# Altium schematic symbol library MI_Personal.SchLib: 995 symbols (part 9 of 12)
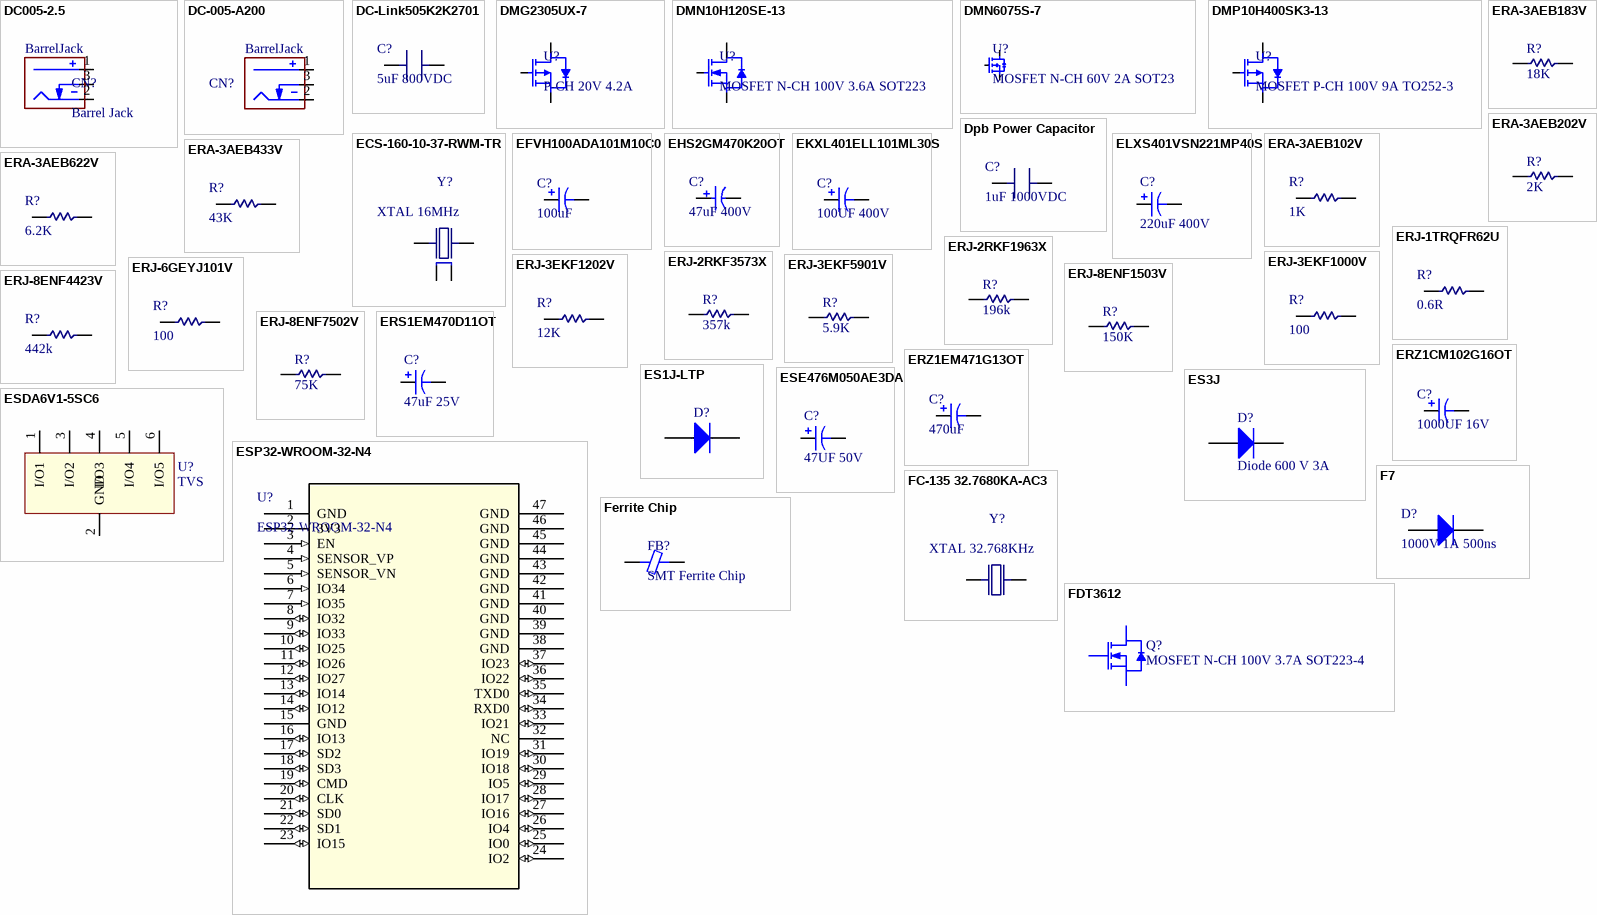
[diagram p35: symbols DC005-2.5 to Ferrite Chip]

## DMN6075S-7
designator U?, comment MOSFET N-CH 60V 2A SOT23
ComponentLink1Description: DIGIKEY; ComponentLink1URL: https://www.digikey.com/en/products/detail/diodes-incorporated/DMN6075S-7/5149292; ComponentLink2Description: LCSC; ComponentLink2URL: https://www.lcsc.com/product-detail/MOSFETs_Diodes-Incorporated-DMN6075S-7_C155242.html; Supplier 1: Digikey; Supplier Part Number 1: DMN6075S-7DICT-ND; Supplier 2: LCSC; Supplier Part Number 2: C155242; Supplier 3: Digikey; Supplier Part Number 3: 785-1830-1-ND; Supplier 4: LCSC; Supplier Part Number 4: C3280138
footprint SOT23-3 (SOT23-3, BAT54, DIODES INC)
pins: 1 GATE, 2 SOURCE, 3 DRAIN

## DMP10H400SK3-13
designator U?, comment MOSFET P-CH 100V 9A TO252-3
Supplier 1: Digikey; Supplier Part Number 1: DMP10H400SK3-13DICT-ND; Supplier 2: LCSC; Supplier Part Number 2: C177034; Supplier 3: Digikey; Supplier Part Number 3: FQD8P10TMCT-ND; Supplier 4: LCSC; Supplier Part Number 4: C241842
footprint DPACK-PMOS
pins: 1 G, 3 S, 4 D

## Dpb Power Capacitor
designator C?, comment 1uF 1000VDC
CAP FILM 1uF 10% 1000VDC DPS1050900*230; Supplier 1: Made In China; Supplier Part Number 1: https://crecapacitor.en.made-in-china.com/product/kfxYFtjHHIcW/China-Custom-Made-DC-Film-Capacitor-for-UPS-40UF-1100VDC.html
footprint CUSTOM 1UF 1000VDC Dpb Power Capacitor (VDC 1000V Voltage Code K ,P = 27.5)
pins: 1 A, 2 B

## ECS-160-10-37-RWM-TR
designator Y?, comment XTAL 16MHz
CRYSTAL 16.0000MHZ 10PF SMD; Supplier 1: DigiKey; Supplier Part Number 1: XC2119CT-ND; Supplier 2: LCSC; Supplier Part Number 2: C49158159
footprint OSC: 2016
pins: 1 XTAL1, 2 GND, 3 XTAL2, 4 GND

## EFVH100ADA101M10C0
designator C?, comment 100uF
CAP ALUM 100UF 20% 100V SMD; Supplier 1: DigiKey; Supplier Part Number 1: 565-EMVY101ARA101MLH0SCT-ND; Supplier 2: LCSC; Supplier Part Number 2: C22387799
footprint CAP ALSMD ELEC 10.3MM H12MM (Aluminum SMD Electrolytic Capacitor, 10.30mm Land Size, 10.00mm Diameter, 12.00mm Height, 10.90mm Maximum Leads Span)
pins: 1, 2

## EHS2GM470K20OT
designator C?, comment 47uF 400V
CAP ALUM 47uF 400V TH; Supplier 1: LCSC; Supplier Part Number 1: C5123346
footprint CAP TH ALUM ELEC D12.50mm S5.00mm H20.00mm (12.5mm Diameter 5mm Lead Spacing Aluminum Electrolytic Capacitors Radial, Can)
pins: 1, 2

## EKXL401ELL101ML30S
designator C?, comment 100UF 400V
CAP ALUM 100UF 20% 400V RADIAL; Supplier 1: Digikey; Supplier Part Number 1: 565-EKXL401ELL101ML30S-ND; Supplier 2: Mouser; Supplier Part Number 2: 661-EKXL401ELL101ML3; Supplier 3: Digikey; Supplier Part Number 3: 493-11293-ND; Supplier 4: Mouser; Supplier Part Number 4: 647-UPZ2G101MHD
footprint CAP TH ALUM ELEC D16.00mm S7.50mm H32.00mm (16mm Diameter 7.5mm Lead Spacing Aluminum Electrolytic Capacitors Radial, Can)
pins: 1, 2

## ELXS401VSN221MP40S
designator C?, comment 220uF 400V
CAP ALUM 220UF 20% 400V SNAP TH; Supplier 1: Digikey; Supplier Part Number 1: 565-ELXS401VSN221MP40S-ND; Supplier 2: Mouser; Supplier Part Number 2: 661-ELXS401VSN221MP4; Supplier 3: DigiKey; Supplier Part Number 3: 1189-3838-ND; Supplier 4: Digikey; Supplier Part Number 4: 493-8549-ND
footprint CAP TH ALUM ELEC D22.00mm S10.00mm H42.00mm (22mm Diameter 10mm Lead Spacing Aluminum Electrolytic Capacitors Radial, Can , Snap-In)
pins: 1, 2

## ERA-3AEB102V
designator R?, comment 1K
RES SMD 1K OHM 0.1% 1/10W 0603; ComponentLink1Description: DIGIKEY; ComponentLink1URL: https://www.digikey.com/en/products/detail/panasonic-electronic-components/ERA-3AEB102V/1465854; ComponentLink2Description: LCSC; ComponentLink2URL: https://www.lcsc.com/product-detail/Chip-Resistor-Surface-Mount_PANASONIC-ERA3AEB102V_C190613.html; Supplier 1: Digikey; Supplier Part Number 1: P1.0KDBCT-ND; Supplier 2: LCSC; Supplier Part Number 2: C190613; Supplier 3: Digikey; Supplier Part Number 3: YAG1237CT-ND; Supplier 4: LCSC; Supplier Part Number 4: C110776
footprint RES 0603_1608 (Chip Resistor, 2-Leads, Body 1.60x0.80mm, IPC Medium Density)
pins: 1 A, 2 B

## ERA-3AEB183V
designator R?, comment 18K
RES SMD 18K OHM 0.1% 1/10W 0603; Supplier 1: Digikey; Supplier Part Number 1: P18KDBCT-ND; Supplier 2: LCSC; Supplier Part Number 2: C473246; Supplier 3: Digikey; Supplier Part Number 3: YAG1552CT-ND; Supplier 4: LCSC; Supplier Part Number 4: C309650
footprint RES 0603_1608 (Chip Resistor, 2-Leads, Body 1.60x0.80mm, IPC Medium Density)
pins: 1 A, 2 B

## ERA-3AEB202V
designator R?, comment 2K
RES SMD 2K OHM 0.1% 1/10W 0603; Supplier 1: Digikey; Supplier Part Number 1: P2.0KDBCT-ND; Supplier 2: LCSC; Supplier Part Number 2: C335077; Supplier 3: Digikey; Supplier Part Number 3: YAG1626CT-ND; Supplier 4: LCSC; Supplier Part Number 4: C728588
footprint RES 0603_1608 (Chip Resistor, 2-Leads, Body 1.60x0.80mm, IPC Medium Density)
pins: 1 A, 2 B

## ERA-3AEB433V
designator R?, comment 43K
RES SMD 43K OHM 0.1% 1/10W 0603; ComponentLink1Description: DIGIKEY; ComponentLink1URL: https://www.digikey.com/en/products/detail/panasonic-electronic-components/ERA-3AEB433V/1465893?s=N4IgTCBcDaIKICUCCBaAzEuAhALGtAaiALoC%2BQA; ComponentLink2Description: LCSC; ComponentLink2URL: https://www.lcsc.com/product-detail/Chip-Resistor-Surface-Mount_PANASONIC-ERA3AEB433V_C445638.html; Supplier 1: Digikey; Supplier Part Number 1: P43KDBCT-ND; Supplier 2: LCSC; Supplier Part Number 2: C445638; Supplier 3: Digikey; Supplier Part Number 3: YAG4557CT-ND; Supplier 4: LCSC; Supplier Part Number 4: C326726
footprint RES 0603_1608 (Chip Resistor, 2-Leads, Body 1.60x0.80mm, IPC Medium Density)
pins: 1 A, 2 B

## ERA-3AEB622V
designator R?, comment 6.2K
RES SMD 6.2K OHM 0.1% 1/10W 0603; Supplier 1: Digikey; Supplier Part Number 1: P6.2KDBCT-ND; Supplier 2: LCSC; Supplier Part Number 2: C445633; Supplier 3: Digikey; Supplier Part Number 3: RG16P6.2KBCT-ND; Supplier 4: LCSC; Supplier Part Number 4: C319500
footprint RES 0603_1608 (Chip Resistor, 2-Leads, Body 1.60x0.80mm, IPC Medium Density)
pins: 1 A, 2 B

## ERJ-1TRQFR62U
designator R?, comment 0.6R
RES SMD 0.604 OHM 1% 1W 2512; Supplier 1: Digikey; Supplier Part Number 1: PT.62YCT-ND; Supplier 2: LCSC; Supplier Part Number 2: C2093704; Supplier 3: Digikey; Supplier Part Number 3: A109910CT-ND; Supplier 4: LCSC; Supplier Part Number 4: C7467376
footprint RES 2512_6332 (Chip Resistor, 2-Leads, Body 6.30x3.20mm, IPC Medium Density)
pins: 1 A, 2 B

## ERJ-2RKF1963X
designator R?, comment 196k
RES SMD 196K OHM 1% 1/10W 0402; Supplier 1: DigiKey; Supplier Part Number 1: P196KLCT-ND; Supplier 2: LCSC; Supplier Part Number 2: C26996
footprint RES 0402_1005 (Chip Resistor, 2-Leads, Body 1.0x0.5mm, IPC Medium Density)
pins: 1 A, 2 B

## ERJ-2RKF3573X
designator R?, comment 357k
RES SMD 357K OHM 1% 1/10W 0402; Supplier 1: DigiKey; Supplier Part Number 1: P357KLCT-ND; Supplier 2: LCSC; Supplier Part Number 2: C27005
footprint RES 0402_1005 (Chip Resistor, 2-Leads, Body 1.0x0.5mm, IPC Medium Density)
pins: 1 A, 2 B

## ERJ-3EKF1000V
designator R?, comment 100
RES SMD 100 OHM 1% 1/10W 0603; Supplier 1: Digikey; Supplier Part Number 1: P100HCT-ND; Supplier 2: LCSC; Supplier Part Number 2: C193336; Supplier 3: Digikey; Supplier Part Number 3: 311-100HRCT-ND; Supplier 4: LCSC; Supplier Part Number 4: C105588
footprint RES 0603_1608
pins: 1 A, 2 B

## ERJ-3EKF1202V
designator R?, comment 12K
RES SMD 12K OHM 1% 1/10W 0603; Supplier 1: Digikey; Supplier Part Number 1: P12.0KHCT-ND; Supplier 2: LCSC; Supplier Part Number 2: C400645; Supplier 3: Digikey; Supplier Part Number 3: 541-12.0KHCT-ND; Supplier 4: LCSC; Supplier Part Number 4: C844737
footprint RES 0603_1608 (Chip Resistor, 2-Leads, Body 1.60x0.80mm, IPC Medium Density)
pins: 1 A, 2 B

## ERJ-3EKF5901V
designator R?, comment 5.9K
RES SMD 5.9K OHM 1% 1/10W 0603; Supplier 1: Digikey; Supplier Part Number 1: P5.90KHTR-ND; Supplier 2: LCSC; Supplier Part Number 2: C403290; Supplier 3: Digikey; Supplier Part Number 3: 311-5.90KHRCT-ND; Supplier 4: LCSC; Supplier Part Number 4: C137697
footprint RES 0603_1608 (Chip Resistor, 2-Leads, Body 1.60x0.80mm, IPC Medium Density)
pins: 1 A, 2 B

## ERJ-6GEYJ101V
designator R?, comment 100
RES SMD 100 OHM 5% 1/8W 0805; Supplier 1: DigiKey; Supplier Part Number 1: P100ACT-ND; Supplier 2: LCSC; Supplier Part Number 2: C230647; Supplier 3: Digikey; Supplier Part Number 3: 311-100CRCT-ND; Supplier 4: LCSC; Supplier Part Number 4: C105577
footprint RES 0805_2012 (Chip Resistor, 2-Leads, Body 2.00x1.25mm, IPC Medium Density)
pins: 1 A, 2 B

## ERJ-8ENF1503V
designator R?, comment 150K
RES SMD 150K OHM 1% 1/4W 1206; Supplier 1: Digikey; Supplier Part Number 1: P150KFCT-ND; Supplier 2: LCSC; Supplier Part Number 2: C2092607; Supplier 3: Digikey; Supplier Part Number 3: YAG5984CT-ND; Supplier 4: LCSC; Supplier Part Number 4: C375529
footprint RES 1206_3216 (Chip Resistor, 2-Leads, Body 3.13x1.55mm, IPC Medium Density)
pins: 1 A, 2 B

## ERJ-8ENF4423V
designator R?, comment 442k
RES SMD 442K OHM 1% 1/4W 1206; Supplier 1: Digikey; Supplier Part Number 1: P442KFCT-ND; Supplier 2: LCSC; Supplier Part Number 2: C42372181; Supplier 3: Digikey; Supplier Part Number 3: 541-442KFCT-ND; Supplier 4: LCSC; Supplier Part Number 4: C323057
footprint RES 1206_3216 (Chip Resistor, 2-Leads, Body 3.13x1.55mm, IPC Medium Density)
pins: 1 A, 2 B

## ERJ-8ENF7502V
designator R?, comment 75K
RES SMD 75K OHM 1% 1/4W 1206; Supplier 1: DigiKey; Supplier Part Number 1: P75.0KFCT-ND; Supplier 2: LCSC; Supplier Part Number 2: C17986; Supplier 3: Digikey; Supplier Part Number 3: 311-75.0KFRCT-ND; Supplier 4: LCSC; Supplier Part Number 4: C137234
footprint RES 1206_3216 (Chip Resistor, 2-Leads, Body 3.13x1.55mm, IPC Medium Density)
pins: 1 A, 2 B

## ERS1EM470D11OT
designator C?, comment 47uF 25V
CAP ALUM 47UF 20% 25V RADIAL TH; Supplier 1: LCSC; Supplier Part Number 1: C106650
footprint CAP TH ALUM ELEC D5.00mm S2.00mm H12.00mm (5mm Diameter 2mm Lead Spacing Aluminum Electrolytic Capacitors Radial, Can)
pins: 1, 2

## ERZ1CM102G16OT
designator C?, comment 1000UF 16V
CAP ALUM 1000UF 20% 16V RADIAL; Supplier 2: LCSC; Supplier Part Number 2: C106707
footprint CAP TH ALUM ELEC D10.00mm S5.00mm H17.50mm (10mm Diameter 5mm Lead Spacing Aluminum Electrolytic Capacitors Radial, Can)
pins: 1, 2

## ERZ1EM471G13OT
designator C?, comment 470uF
CAP ALUM 470UF 20% 25V RADIAL TH; Supplier 1: Digikey; Supplier Part Number 1: 1189-1869-ND; Supplier 2: LCSC; Supplier Part Number 2: C106715
footprint CAP TH ALUM ELEC D10.00mm S5.00mm H13.50mm (10mm Diameter 5mm Lead Spacing Aluminum Electrolytic Capacitors Radial, Can)
pins: 1, 2

## ES1J-LTP
designator D?, comment DIODE GEN PURP 600V 1A DO214AC  (value not drawn)
Supplier 1: Digikey; Supplier Part Number 1: ES1J-LTPMSCT-ND; Supplier 2: LCSC; Supplier Part Number 2: C86560; Supplier 3: Digikey; Supplier Part Number 3: RS1J-FDICT-ND; Supplier 4: LCSC; Supplier Part Number 4: C155316
footprint DO214AC SMA (Molded Diode, 2-Leads, Body 4.30x2.60mm, IPC Medium Density)
pins: 1 A, 2 K

## ES3J
designator D?, comment Diode 600 V 3A
DIODE RECTIFER 600 V 3A Surface Mount DO-214AB (SMC); Supplier 1: Digikey; Supplier Part Number 1: 1801-ES3JDKR-ND; Supplier 2: LCSC; Supplier Part Number 2: C241736; Supplier 3: Digikey; Supplier Part Number 3: 4878-ES3JCT-ND; Supplier 4: Mouser; Supplier Part Number 4: 637-ES3J
footprint DO214AB SMC (Molded Diode, 2-Leads, Body 6.85x5.90mm, IPC Medium Density)
pins: 1 A, 2 K

## ESDA6V1-5SC6
designator U?, comment TVS
DIODE TVS DIODE 3VWM SOT23-6; Supplier 1: DigiKey; Supplier Part Number 1: 497-7747-1-ND; Supplier 2: LCSC; Supplier Part Number 2: C2827672
footprint SOT23-6 TI
pins: 1 I/O1 (power), 2 GND (power), 3 I/O2 (power), 4 I/O3 (power), 5 I/O4 (power), 6 I/O5 (power)

## ESE476M050AE3DA
designator C?, comment 47UF 50V
CAP ALUM 47UF 20% 50V RADIAL TH; Supplier 1: Digikey; Supplier Part Number 1: 399-ESE476M050AE3DACT-ND; Supplier 2: LCSC; Supplier Part Number 2: C106665; Supplier 3: Digikey; Supplier Part Number 3: P5181-ND; Supplier 4: LCSC; Supplier Part Number 4: C45101
footprint CAP TH ALUM ELEC D6.30mm S2.50mm H12.50mm (6.3mm Diameter 2.5mm Lead Spacing Aluminum Electrolytic Capacitors Radial, Can)
pins: 1, 2

## ESP32-WROOM-32-N4
designator U?
IC MODULE ESP32 WROOM
footprint MOD_ESP32-WROOM-32_EXP
pins: 1 GND (power), 2 3V3 (power), 3 EN (in), 4 SENSOR_VP (in), 5 SENSOR_VN (in), 6 IO34 (in), 7 IO35 (in), 8 IO32 (io), 9 IO33 (io), 10 IO25 (io), 11 IO26 (io), 12 IO27 (io), 13 IO14 (io), 14 IO12 (io), 15 GND (power), 16 IO13 (io), 17 SD2 (io), 18 SD3 (io), 19 CMD (io), 20 CLK (io), 21 SD0 (io), 22 SD1 (io), 23 IO15 (io), 24 IO2 (io), 25 IO0 (io), 26 IO4 (io), 27 IO16 (io), 28 IO17 (io), 29 IO5 (io), 30 IO18 (io), 31 IO19 (io), 32 NC, 33 IO21 (io), 34 RXD0 (io), 35 TXD0 (io), 36 IO22 (io), 37 IO23 (io), 38 GND (power), 39 GND (power), 40 GND (power), 41 GND (power), 42 GND (power), 43 GND (power), 44 GND (power), 45 GND (power), 46 GND (power), 47 GND (power)

## F7
designator D?, comment 1000V 1A 500ns
DIODE STANDARD 1000V 1A SOD123FL 500ns; Supplier 1: Digikey; Supplier Part Number 1: 5399-FR107CT-ND; Supplier 2: LCSC; Supplier Part Number 2: C908424
footprint SOD-123FL
pins: 1 A, 2 K

## FC-135 32.7680KA-AC3
designator Y?, comment XTAL 32.768KHz
CRYSTAL 32.7680KHZ 9PF SMD; Supplier 1: DigiKey; Supplier Part Number 1: SER4085CT-ND; Supplier 2: LCSC; Supplier Part Number 2: C99010
footprint OSC: 3215
pins: 1 XTAL1, 2 XTAL2

## FDT3612
designator Q?, comment MOSFET N-CH 100V 3.7A SOT223-4
N-Channel 100 V 3.7A (Ta) 3W (Ta) Surface Mount SOT-223-4; Supplier 1: Digikey; Supplier Part Number 1: FDT3612CT-ND; Supplier 2: LCSC; Supplier Part Number 2: C7472931; Supplier 3: Digikey; Supplier Part Number 3: FQT7N10LTFCT-ND; Supplier 4: LCSC; Supplier Part Number 4: C154506
footprint SOT-223 (SOT223, 4-Leads, Body 6.50x7.00mm (avg), Pitch 2.30mm, IPC Medium Density)
pins: D Drain, D1 Drain1, G Gate, S Source

## Ferrite Chip
designator FB?, comment SMT Ferrite Chip
SMD Ferrite Chip; Supplier 1: MAKERS; Supplier Part Number 1: https://makerselectronics.com/product/ferrite-beads-1206-100%cf%89-100mhz-1a-1-250m%cf%89; ComponentLink1Description: MAKERS; ComponentLink1URL: https://makerselectronics.com/product/ferrite-beads-1206-100%cf%89-100mhz-1a-1-250m%cf%89
footprint FER 1206_3216 (Chip Ferrite, 2-Leads, Body 3.20x1.60mm, IPC Medium Density)
pins: 1, 2

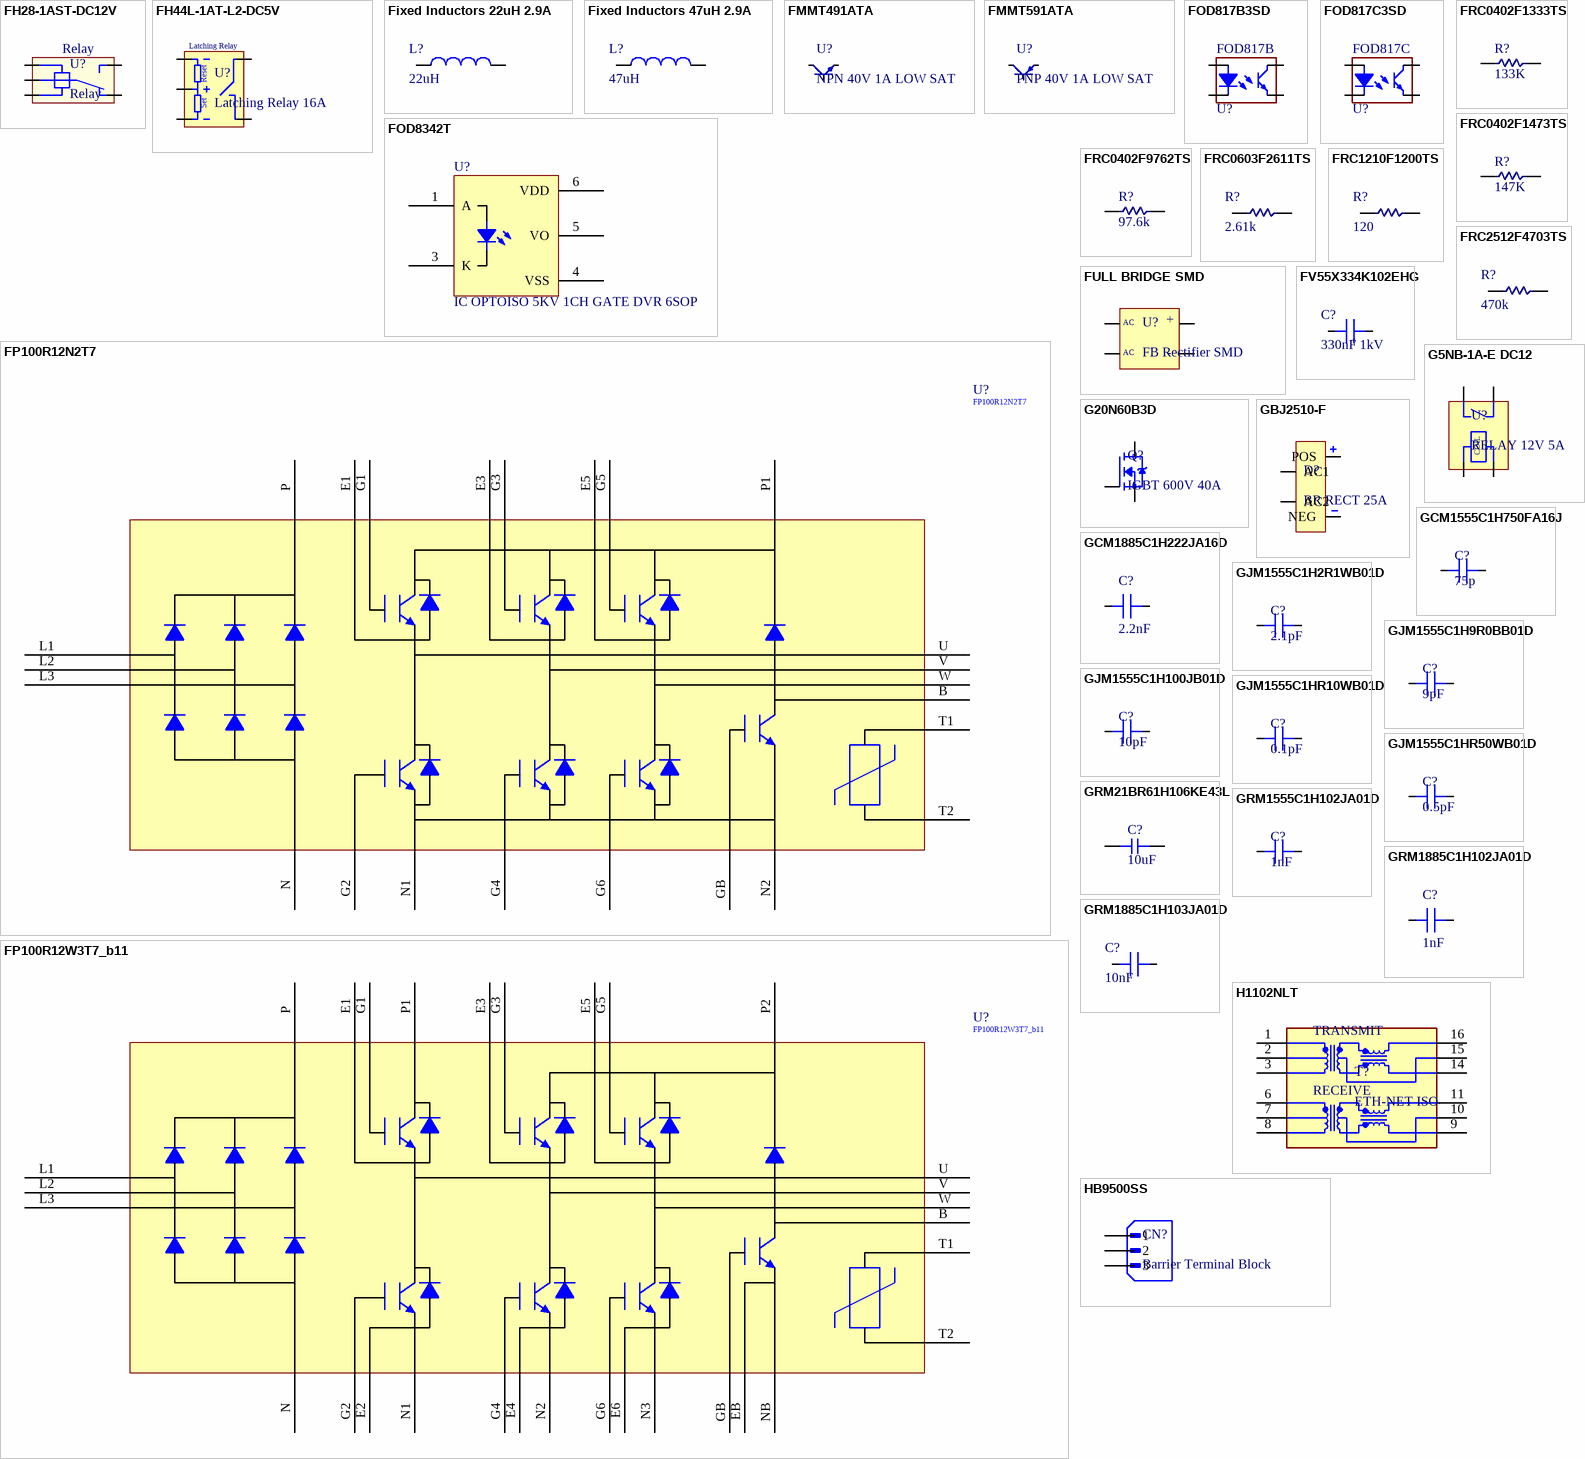
[diagram p13: symbols FH28-1AST-DC12V to HB9500SS]

## FH28-1AST-DC12V
designator U?, comment Relay
RELAY 20A 12VDC; Supplier 1: Makers; Supplier Part Number 1: https://makerselectronics.com/product/fanhar-relay-fh28-1ast-dc12v-20a-4p; ComponentLink1Description: Makers; ComponentLink1URL: https://makerselectronics.com/product/fanhar-relay-fh28-1ast-dc12v-20a-4p
footprint FH28-1AST-DC12V
pins: 1, 2, 3, 4, 5

## FH44L-1AT-L2-DC5V
designator U?, comment Latching Relay 16A
IC Latching Relay 16A 5 Pin; Supplier 1: Makers; Supplier Part Number 1: https://makerselectronics.com/product/fanhar-relay-fh44l-1at-l2-dc5v-16a-5p/; ComponentLink1Description: Makers; ComponentLink1URL: https://makerselectronics.com/product/fanhar-relay-fh44l-1at-l2-dc5v-16a-5p/
footprint Latching Relay FH44L-1AT-L2-DC5V 16A 5 Pin
pins: 1, 2, 3, 4, 5
text: Latching Relay; Reset; Set

## Fixed Inductors 22uH 2.9A
designator L?, comment 22uH
Fixed Inductor SMD 22uH 2.9A; Supplier 1: Makers; Supplier Part Number 1: https://makerselectronics.com/product/smd-pwr-fixed-inductors-22uh-2-9a-20-cdrh124; ComponentLink1Description: Makers; ComponentLink1URL: https://makerselectronics.com/product/smd-pwr-fixed-inductors-22uh-2-9a-20-cdrh124
footprint INDUCTOR NDP120120X45N (Precision Wire Wound Inductor, 2-Leads, Body 12.00x12.00mm, IPC Medium Density)
pins: 1, 2

## Fixed Inductors 47uH 2.9A
designator L?, comment 47uH
Fixed Inductor SMD 47uH 2.9A; Supplier 1: Makers; Supplier Part Number 1: https://makerselectronics.com/product/smd-pwr-fixed-inductors-22uh-2-9a-20-cdrh124; ComponentLink1Description: Makers; ComponentLink1URL: https://makerselectronics.com/product/smd-pwr-fixed-inductors-22uh-2-9a-20-cdrh124
footprint INDP120120X70N (Precision Wire Wound Inductor, 2-Leads, Body 12.00x12.00mm, IPC Medium Density)
pins: 1, 2

## FMMT491ATA
designator U?, comment NPN 40V 1A LOW SAT
TRANS NPN 40V 1A SOT-23-3; Supplier 1: DigiKey; Supplier Part Number 1: FMMT491ACT-ND; Supplier 2: LCSC; Supplier Part Number 2: C110504
footprint SOT23-3 (SOT23-3, BAT54, DIODES INC)
pins: 1 B, 2 E, 3 C

## FMMT591ATA
designator U?, comment PNP 40V 1A LOW SAT
TRANS PNP 40V 1A SOT-23-3; Supplier 1: Digikey; Supplier Part Number 1: FMMT591ACT-ND; Supplier 2: LCSC; Supplier Part Number 2: C460079
footprint SOT23-3 (SOT23-3, BAT54, DIODES INC)
pins: 1 B, 2 E, 3 C

## FOD817B3SD
designator U?, comment OPTOISOLATOR 5KV TRANSISTOR 4SMD  (value not drawn)
IC Optoisolator Transistor Output 5000Vrms 1 Channel 4-SMD; Supplier 1: Digikey; Supplier Part Number 1: FOD817B3SDCT-ND; Supplier 2: LCSC; Supplier Part Number 2: C327483; Supplier 3: Digikey; Supplier Part Number 3: LTV-817S-B-ND; Supplier 4: Mouser; Supplier Part Number 4: 859-LTV-817S-B
footprint SOP 4 817 OptoCoupler (SOP, 4-Leads, Body 4.60x6.50mm, Pitch 2.54mm, IPC Medium Density)
pins: 1, 2, 3, 4
text: FOD817B

## FOD817C3SD
designator U?, comment OPTOISOLATOR 5KV TRANSISTOR 4SMD  (value not drawn)
IC Optoisolator Transistor SMD Output 5000Vrms 1 Channel; Supplier 1: Digikey; Supplier Part Number 1: FOD817C3SDCT-ND; Supplier 2: LCSC; Supplier Part Number 2: C241831; Supplier 3: Digikey; Supplier Part Number 3: 160-LTV-817S-TA1-CCT-ND; Supplier 4: LCSC; Supplier Part Number 4: C3025164
footprint SOP 4 817 OptoCoupler (SOP, 4-Leads, Body 4.60x6.50mm, Pitch 2.54mm, IPC Medium Density)
pins: 1, 2, 3, 4
text: FOD817C

## FOD8342T
designator U?, comment IC OPTOISO 5KV 1CH GATE DVR 6SOP
IC 3A Gate Driver Optical Coupling 5000Vrms 1 Channel 6-SOP; Supplier 1: Digikey; Supplier Part Number 1: FOD8342TOS-ND; Supplier 2: LCSC; Supplier Part Number 2: C132695
footprint SOIC-6 FOD8342T
pins: 1 A, 3 K, 4 VSS, 5 VO, 6 VDD

## FP100R12N2T7
designator U?
IGBT Module Trench Field Stop Three Phase Inverter 1200 V 100 A / EconoPIM™ 2; Supplier 1: DigiKey; Supplier Part Number 1: 448-FP100R12N2T7BPSA2-ND; Supplier 2: Mouser; Supplier Part Number 2: 726-FP100R12N2T7BPS2; Supplier 3: LCSC; Supplier Part Number 3: C44051119; ComponentLink1Description: infineon; ComponentLink1URL: https://www.infineon.com/part/FP100R12N2T7
footprint FP100R12N2T7 (Module, IGBT, THT, 23 pin, 107.50 mm L X 45.00 mm W X 17.50mm mm H body)
pins: B, E1, E3, E5, G1, G2, G3, G4, G5, G6, GB, L1, L2, L3, N, N1, N2, P, P1, T1, T2, U, V, W

## FP100R12W3T7_b11
designator U?
IGBT Module Trench Field Stop Three Phase Inverter 1200 V 100 A Chassis Mount AG-EASY3B; Value: FP100R12W3T7_b11; Supplier Part Number: FP100R12W3T7_b11; Supplier: IFX
footprint EasyPIM™ 3B
pins: B, E1, E2, E3, E4, E5, E6, EB, G1, G2, G3, G4, G5, G6, GB, L1, L2, L3, N, N1, N2, N3, NB, P, P1, P2, T1, T2, U, V, W

## FRC0402F1333TS
designator R?, comment 133K
RES SMD 133K OHM 1% 1/16W 0402; Supplier 1: DigiKey; Supplier Part Number 1: 13-RC0402FR-13133KLCT-ND; Supplier 2: LCSC; Supplier Part Number 2: C2998045
footprint RES 0402_1005 (Chip Resistor, 2-Leads, Body 1.0x0.5mm, IPC Medium Density)
pins: 1 A, 2 B

## FRC0402F1473TS
designator R?, comment 147K
RES SMD 147K OHM 1% 1/16W 0402; Supplier 1: DigiKey; Supplier Part Number 1: 13-AC0402FR-07147KLCT-ND; Supplier 2: LCSC; Supplier Part Number 2: C2933073
footprint RES 0402_1005 (Chip Resistor, 2-Leads, Body 1.0x0.5mm, IPC Medium Density)
pins: 1 A, 2 B

## FRC0402F9762TS
designator R?, comment 97.6k
RES SMD 97.6K OHM 1% 1/16W 0402; Supplier 1: DigiKey; Supplier Part Number 1: 311-97.6KLRCT-ND; Supplier 2: LCSC; Supplier Part Number 2: C5126124
footprint RES 0402_1005 (Chip Resistor, 2-Leads, Body 1.0x0.5mm, IPC Medium Density)
pins: 1 A, 2 B

## FRC0603F2611TS
designator R?, comment 2.61k
RES SMD 2.61K OHM 1% 1/10W 0603; Supplier 1: Digikey; Supplier Part Number 1: 541-2.61KHCT-ND; Supplier 2: LCSC; Supplier Part Number 2: C2933181
footprint RES 0603_1608 (Chip Resistor, 2-Leads, Body 1.60x0.80mm, IPC Medium Density)
pins: 1 A, 2 B

## FRC1210F1200TS
designator R?, comment 120
RES SMD 120 OHM 1% 1/2W 1210; Supplier 1: DigiKey; Supplier Part Number 1: 13-RC1210FR-07120RLCT-ND; Supplier 2: LCSC; Supplier Part Number 2: C2974062
footprint RES 1210_3225 (Chip Resistor, 2-Leads, Body 3.1x2.6mm, IPC Medium Density)
pins: 1 A, 2 B

## FRC2512F4703TS
designator R?, comment 470k
RES SMD 470k ±1% 1W 2512; Supplier 1: Digikey; Supplier Part Number 1: RMCF0402FT470KCT-ND; Supplier 2: LCSC; Supplier Part Number 2: C2934077
footprint RES 2512_6332 (Chip Resistor, 2-Leads, Body 6.30x3.20mm, IPC Medium Density)
pins: 1 A, 2 B

## FULL BRIDGE SMD
designator U?, comment FB Rectifier SMD
IC SMD Full Bridge rectifier 1kV 5A; Supplier 1: Makers; Supplier Part Number 1: https://makerselectronics.com/product/fmsb30m-3a-1-3v3a-3a-1kv-umsb-smd-bridge-rectifier; Supplier 2: LCSC; Supplier Part Number 2: C2985004
footprint Full Bridge SMD
pins: 1 +, 2 -, 3 10, 4
text: AC

## FV55X334K102EHG
designator C?, comment 330nF 1kV
CAP CER 330nF 1kV X7R 2220; Supplier 1: Digikey; Supplier Part Number 1: 490-3505-1-ND; Supplier 2: LCSC; Supplier Part Number 2: C5156759
footprint CAP 2220_5650 3.0MM (Chip Capacitor, 2-Leads, Body 5.70x5.00mm, IPC Medium Density)
pins: 1, 2

## G5NB-1A-E DC12
designator U?, comment RELAY 12V 5A
RELAY GEN PURPOSE SPST 5A 12V; Supplier 1: LCSC; Supplier Part Number 1: C225714
footprint RELAY_G5NB-1A-E
pins: 1, 2, 3, 4
text: COIL

## G20N60B3D
designator Q?, comment IGBT 600V 40A
IGBT 600V 40A To-247; Supplier 1: RAM; Supplier Part Number 1: https://www.ram-e-shop.com/shop/g20n60b3d-g20n60b3d-5986; ComponentLink1Description: RAM; ComponentLink1URL: https://www.ram-e-shop.com/shop/g20n60b3d-g20n60b3d-5986
footprint TO-247
pins: 1 G, 2 D, 3 S

## GBJ2510-F
designator D?, comment BR RECT 25A
DIODE Bridge Rectifier Single Phase Standard 1 kV Through Hole GBJ; Supplier 1: LCSC; Supplier Part Number 1: C42406061; Supplier 2: DigiKey; Supplier Part Number 2: GBJ2510-FDI-ND
footprint DIODE BRIDGE GBJ
pins: 1 POS, 2 AC1, 3 AC2, 4 NEG

## GCM1555C1H750FA16J
designator C?, comment 75p
CAP CER 75PF 50V C0G/NP0 0402; Supplier 1: WORLDWAY; Supplier Part Number 1: GCM1555C1H750FA16J; Supplier 2: LCSC; Supplier Part Number 2: C22435960
footprint CAP 0402_1005 RF (Chip Capacitor, 2-Leads, Body 1.02x0.51mm, IPC High Density)
pins: 1, 2

## GCM1885C1H222JA16D
designator C?, comment 2.2nF
CAP CER 2200PF 50V C0G/NP0 0603; Supplier 1: DigiKey; Supplier Part Number 1: 490-4968-1-ND; Supplier 2: LCSC; Supplier Part Number 2: C77033; Supplier 3: Digikey; Supplier Part Number 3: 1292-1507-1-ND; Supplier 4: LCSC; Supplier Part Number 4: C33353
footprint CAP 0603_1608 (Chip Capacitor, 2-Leads, Body 1.60x0.80mm, IPC Medium Density)
pins: 1, 2

## GJM1555C1H2R1WB01D
designator C?, comment 2.1pF
CAP CER 2.1PF 50V C0G/NP0 0402; Supplier 1: DigiKey; Supplier Part Number 1: 490-GJM1555C1H2R1WB01DCT-ND; Supplier 2: LCSC; Supplier Part Number 2: C2220990
footprint CAP 0402_1005 RF (Chip Capacitor, 2-Leads, Body 1.02x0.51mm, IPC High Density)
pins: 1, 2

## GJM1555C1H9R0BB01D
designator C?, comment 9pF
RF CAP CER 9PF 50V C0G/NP0 0402; Supplier 1: DigiKey; Supplier Part Number 1: 490-14792-1-ND; Supplier 2: LCSC; Supplier Part Number 2: C88899
footprint CAP 0402_1005 RF (Chip Capacitor, 2-Leads, Body 1.02x0.51mm, IPC High Density)
pins: 1, 2

## GJM1555C1H100JB01D
designator C?, comment 10pF
RF CAP CER 10PF 50V C0G/NP0 0402; Supplier 1: DigiKey; Supplier Part Number 1: 490-3113-1-ND; Supplier 2: LCSC; Supplier Part Number 2: C85874
footprint CAP 0402_1005 RF (Chip Capacitor, 2-Leads, Body 1.02x0.51mm, IPC High Density)
pins: 1, 2

## GJM1555C1HR10WB01D
designator C?, comment 0.1pF
RF CAP CER 0.1PF 50V C0G/NP0 0402; Supplier 1: DigiKey; Supplier Part Number 1: 490-11246-1-ND; Supplier 2: LCSC; Supplier Part Number 2: C161338
footprint CAP 0402_1005 RF (Chip Capacitor, 2-Leads, Body 1.02x0.51mm, IPC High Density)
pins: 1, 2

## GJM1555C1HR50WB01D
designator C?, comment 0.5pF
RF CAP CER 0.5PF 50V C0G/NP0 0402; Supplier 1: DigiKey; Supplier Part Number 1: 490-11250-1-ND; Supplier 2: LCSC; Supplier Part Number 2: C76912
footprint CAP 0402_1005 RF (Chip Capacitor, 2-Leads, Body 1.02x0.51mm, IPC High Density)
pins: 1, 2

## GRM21BR61H106KE43L
designator C?  Capacitance: 10uF  (hidden comment: *)
Capacitor, Ceramic (MLCC), 10uF, ±10%, 50V, X5R, ±10%, SMD 0805; Manufacturer: Murata Electronics; Manufacturer Part Number: GRM21BR61H106KE43L; Package Size: 0805; JLCPCB Basic Part: Yes; JLCPCB Part Number: C440198; Supplier 1: LCSC; Category: Capacitors - MLCC; Supplier Part Number 1: C440198; Tolerance: ±10%; Voltage Rating: 50V; Temperature Coefficient: X5R; RoHS: Yes; ComponentLink1Description: Datasheet; ComponentLink1URL: https://wmsc.lcsc.com/wmsc/upload/file/pdf/v2/lcsc/2310251059_Murata-Electronics-GRM21BR61H106KE43L_C440198.pdf; ComponentLink2Description: JLCPCB Part URL; ComponentLink2URL: https://jlcpcb.com/partdetail/C440198; ComponentLink3Description: LCSC Part URL; ComponentLink3URL: https://lcsc.com/product-detail/Multilayer-Ceramic-Capacitors-MLCC---SMD-SMT_Murata-Electronics-Murata-Electronics-GRM21BR61H106KE43L_C440198.html
footprint CAP-0805 (0805 (2012M) Capacitor)
pins: 1, 2

## GRM1555C1H102JA01D
designator C?, comment 1nF
RF CAP CER 1nF 50V C0G/NP0 0402; Supplier 1: DigiKey; Supplier Part Number 1: 490-3244-6-ND; Supplier 2: LCSC; Supplier Part Number 2: C76947
footprint CAP 0402_1005 RF (Chip Capacitor, 2-Leads, Body 1.02x0.51mm, IPC High Density)
pins: 1, 2

## GRM1885C1H102JA01D
designator C?, comment 1nF
CAP CER 1000PF 50V C0G/NP0 0603; Supplier 1: DigiKey; Supplier Part Number 1: 490-1451-1-ND; Supplier 2: LCSC; Supplier Part Number 2: C77026; Supplier 3: Digikey; Supplier Part Number 3: 1276-1091-1-ND; Supplier 4: LCSC; Supplier Part Number 4: C163508
footprint CAP 0603_1608 (Chip Capacitor, 2-Leads, Body 1.60x0.80mm, IPC Medium Density)
pins: 1, 2

## GRM1885C1H103JA01D
designator C?, comment 10nF
CAP CER 10000PF 50V C0G/NP0 0603; Supplier 1: Digikey; Supplier Part Number 1: 490-9666-1-ND; Supplier 2: LCSC; Supplier Part Number 2: C85973; Supplier 3: Digikey; Supplier Part Number 3: 445-7404-1-ND; Supplier 4: LCSC; Supplier Part Number 4: C82282
footprint CAP 0603_1608
pins: 1, 2

## H1102NLT
designator T?, comment ETH-NET ISO
TRANS Isolation and Data Interface (Encapsulated) Pulse Transformer 1:1 Transmitter, 1:1 Receiver Surface Mount; Supplier 1: DigiKey; Supplier Part Number 1: 553-1532-1-ND; Supplier 2: LCSC; Supplier Part Number 2: C18584
footprint TRANS ETHERNET ISO SMD
pins: 1, 2, 3, 6, 7, 8, 9, 10, 11, 14, 15, 16
text: TRANSMIT; RECEIVE

## HB9500SS
designator CN?, comment Barrier Terminal Block
CONN Barrier Terminal Block with Cover 300V/30A 3 Pin 9.5mm Pitch; Supplier 1: MAKERS; Supplier Part Number 1: https://makerselectronics.com/product/hb9500ss-barrier-terminal-block-with-cover-300v-30a-3-pin-9-5mm-pitch/; ComponentLink1Description: MAKERS; ComponentLink1URL: https://makerselectronics.com/product/hb9500ss-barrier-terminal-block-with-cover-300v-30a-3-pin-9-5mm-pitch/
footprint Barrier Screw Terminal 9.5mm Pitch
pins: 1, 2, 3

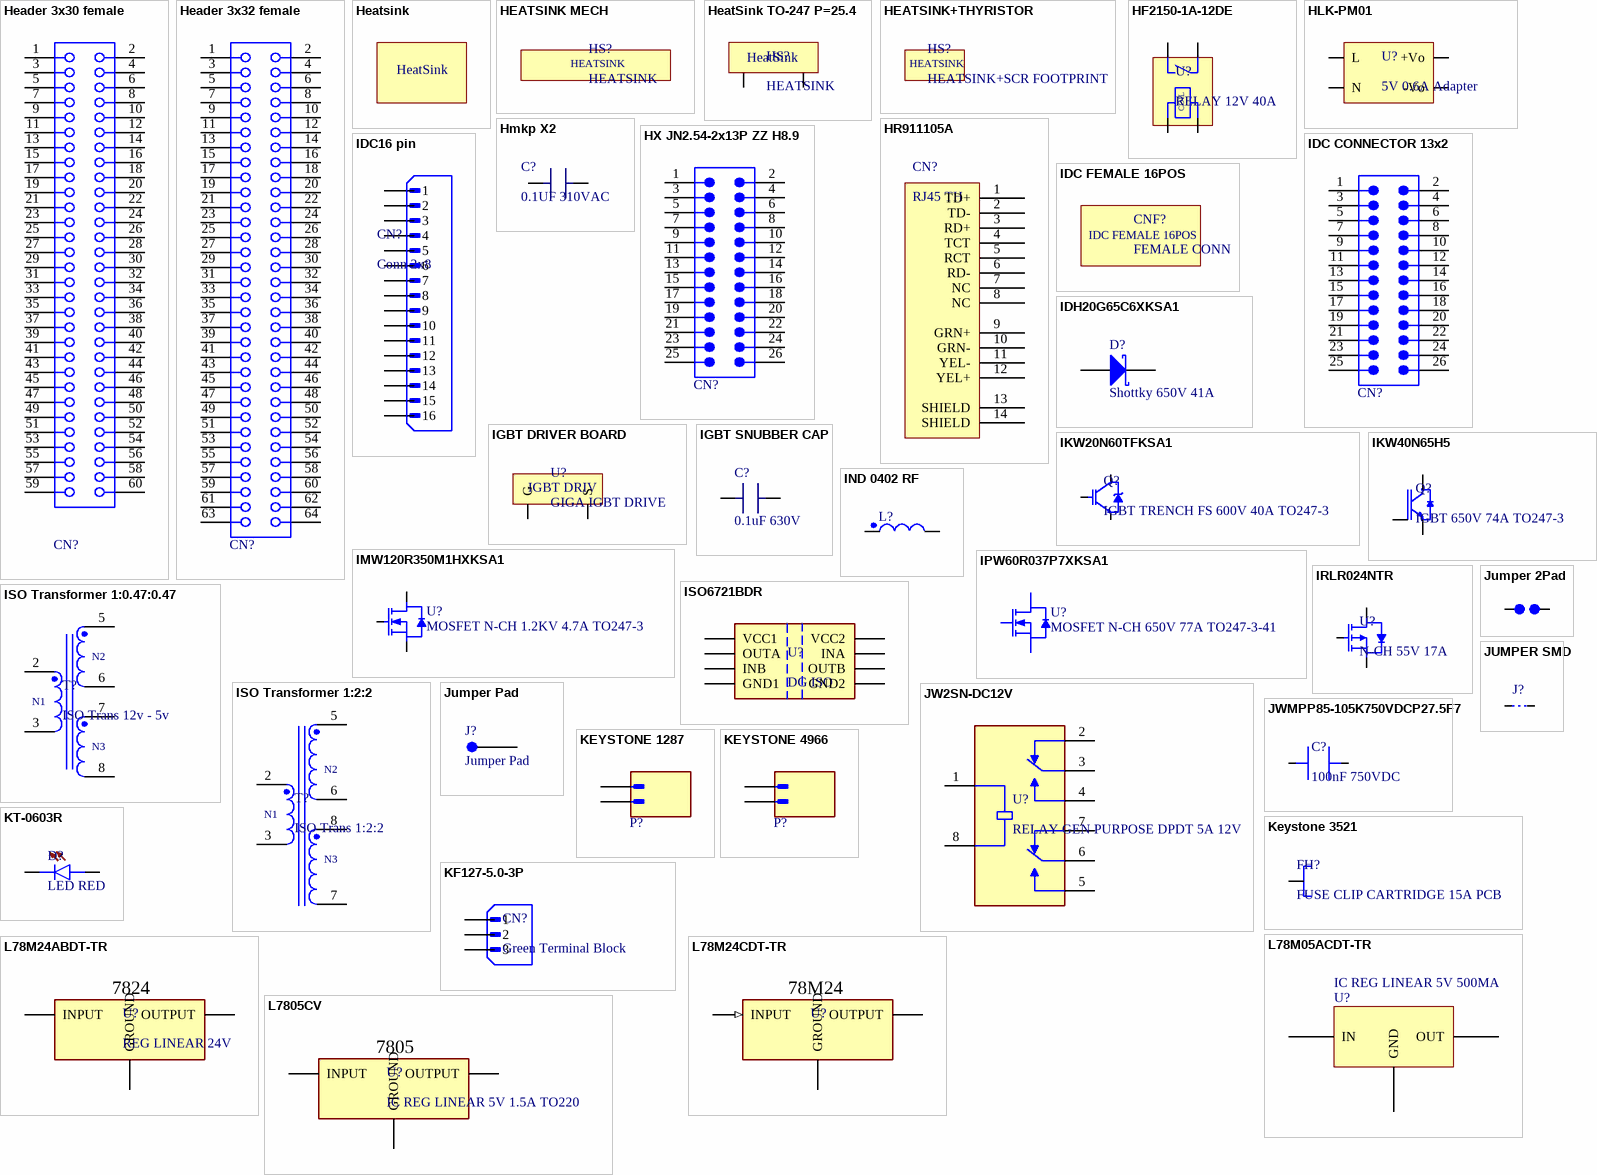
[diagram p14: symbols Header 3x30 female to L7805CV]

## Header 3x30 female
designator CN?, comment CONN HEADER VERT 60POS 2ROW 2.54MM Female  (value not drawn)
CONNECTOR Socket Header, THT, Vertical, pitch 2.54mm, 2 Row, 60P; ComponentLink1Description: Made In China; ComponentLink1URL: https://forman.en.made-in-china.com/product/iGBYVIkJbXWo/China-Fpic-Pin-Header-Connectors-Customized-PCB-Board-Electronics-0-8mm-to-2-54mm-Female-Header.html?pv_id=1ig96hv8j29e&faw_id=1ig96ikd9525; Supplier 1: Made In China; Supplier Part Number 1: https://forman.en.made-in-china.com/product/iGBYVIkJbXWo/China-Fpic-Pin-Header-Connectors-Customized-PCB-Board-Electronics-0-8mm-to-2-54mm-Female-Header.html?pv_id=1ig96hv8j29e&faw_id=1ig96ikd9525
footprint HEADER 2x30 Female (Socket Header, Pitch 2.54 mm, THT, Vertical, dual row, 60p)
pins: 1, 2, 3, 4, 5, 6, 7, 8, 9, 10, 11, 12, 13, 14, 15, 16, 17, 18, 19, 20, 21, 22, 23, 24, 25, 26, 27, 28, 29, 30, 31, 32, 33, 34, 35, 36, 37, 38, 39, 40, 41, 42, 43, 44, 45, 46, 47, 48, 49, 50, 51, 52, 53, 54, 55, 56, 57, 58, 59, 60

## Header 3x32 female
designator CN?, comment CONN HEADER VERT 64POS 2ROW 2.54MM Female  (value not drawn)
CONNECTOR Socket Header, THT, Vertical, pitch 2.54mm, 2 Row, 64P; ComponentLink1Description: Made In China; ComponentLink1URL: https://forman.en.made-in-china.com/product/iGBYVIkJbXWo/China-Fpic-Pin-Header-Connectors-Customized-PCB-Board-Electronics-0-8mm-to-2-54mm-Female-Header.html?pv_id=1ig96hv8j29e&faw_id=1ig96ikd9525; Supplier 1: Made In China; Supplier Part Number 1: https://forman.en.made-in-china.com/product/iGBYVIkJbXWo/China-Fpic-Pin-Header-Connectors-Customized-PCB-Board-Electronics-0-8mm-to-2-54mm-Female-Header.html?pv_id=1ig96hv8j29e&faw_id=1ig96ikd9525
footprint HEADER 2x32 Female (Socket Header, Pitch 2.54 mm, THT, Vertical, dual row, 64p)
pins: 1, 2, 3, 4, 5, 6, 7, 8, 9, 10, 11, 12, 13, 14, 15, 16, 17, 18, 19, 20, 21, 22, 23, 24, 25, 26, 27, 28, 29, 30, 31, 32, 33, 34, 35, 36, 37, 38, 39, 40, 41, 42, 43, 44, 45, 46, 47, 48, 49, 50, 51, 52, 53, 54, 55, 56, 57, 58, 59, 60, 61, 62, 63, 64

## Heatsink
designator HS?  (value not drawn)
Custom Made; Supplier 1: Made In China
footprint HeatSink
text: HeatSink

## HEATSINK MECH
designator HS?, comment HEATSINK  (mechanical)
MECH THYRISTOR HEATSINK CUSTOM MADE

## HeatSink TO-247 P=25.4
designator HS?, comment HEATSINK
HEATSINK GIGA; Supplier 1: MAKERS; Supplier Part Number 1: https://makerselectronics.com/product/aluminium-heatsink-for-to-247-38x34x12mm-black; ComponentLink1Description: MAKERS; ComponentLink1URL: https://makerselectronics.com/product/aluminium-heatsink-for-to-247-38x34x12mm-black
footprint HeatSink TO-247 (Rwesh Ta7n)
pins: 1, 2
text: HeatSink

## HEATSINK+THYRISTOR
designator HS?, comment HEATSINK+SCR FOOTPRINT  (no BOM)
GRAPHICAL HEATSINK+THYRISTOR FOOTPRINT
footprint HeatSinkThyristorMounted
text: HEATSINK

## HF2150-1A-12DE
designator U?, comment RELAY 12V 40A
RELAY 12V 40A 1 Form A: 1A (SPST-NO) Through Hole,31.8x27mm; Supplier 1: DIGIKEY; Supplier Part Number 1: PB2352-ND; Supplier 2: LCSC; Supplier Part Number 2: C32863
footprint Relay HF2150-1A-12DE (Through Hole,27x31.8mm Power Relays ROHS)
pins: 1, 2, 3, 4
text: COIL

## HLK-PM01
designator U?, comment 5V 0.6A Adapter
IC HLK-PM01 AC/DC Power Module 5V 0.6A 3W; Supplier 1: Makers; Supplier Part Number 1: https://makerselectronics.com/product/hlk-pm01-ac-dc-power-module/; ComponentLink1Description: Makers; ComponentLink1URL: https://makerselectronics.com/product/hlk-pm01-ac-dc-power-module/
footprint HLK-PM01 AC/DC Power Module 5V 0.6A 3W
pins: 1 N, 2 L, 3 -Vo, 4 +Vo

## Hmkp X2
designator C?, comment 0.1UF 310VAC
CAP FILM 0.1UF 310VAC; ComponentLink1Description: MADE IN CHINA; ComponentLink1URL: https://hongfarad168.en.made-in-china.com/product/AGhpCdaKnWVo/China-1-0UF-250-275-305-310V-Hmkp-X2-Metallized-Polypropylene-Film-Intereference-Suppresion-Capacitor.html?pv_id=1ig1l5eqi779&faw_id=1ig1l5nt13d5; Supplier 1: Made In China; Supplier Part Number 1: https://hongfarad168.en.made-in-china.com/product/AGhpCdaKnWVo/China-1-0UF-250-275-305-310V-Hmkp-X2-Metallized-Polypropylene-Film-Intereference-Suppresion-Capacitor.html?pv_id=1ig1l5eqi779&faw_id=1ig1l5nt13d5
footprint Hmkp X2
pins: 1 A, 2 B

## HR911105A
designator CN?, comment RJ45 TH
CONN MOD JACK RJ45 TH W MAGs
footprint CONN RJ45 HR911105A
pins: 1 TD+, 2 TD-, 3 RD+, 4 TCT, 5 RCT, 6 RD-, 7 NC, 8 NC, 9 GRN+, 10 GRN-, 11 YEL-, 12 YEL+, 13 SHIELD, 14 SHIELD

## HX JN2.54-2x13P ZZ H8.9
designator CN?, comment CONN HEADER VERT 26POS 2ROW 2.54MM Male  (value not drawn)
CONNECTOR Box Header, THT Straight, pitch 2.54mm, 2 row, 26 pin; Supplier 1: LCSC; Supplier Part Number 1: C42455950
footprint IDC CONNECTOR 13x2 (26 pins, straight, gold plating)
pins: 1, 2, 3, 4, 5, 6, 7, 8, 9, 10, 11, 12, 13, 14, 15, 16, 17, 18, 19, 20, 21, 22, 23, 24, 25, 26

## IDC16 pin
designator CN?, comment Conn 2x8
CONN HEADER VERT 16POS 2.5MM IDC; Supplier 1: RAM; Supplier Part Number 1: https://www.ram-e-shop.com/shop/fc16-pcb-idc16-male-polarized-fc16-pcb-6002; ComponentLink1Description: RAM; ComponentLink1URL: https://www.ram-e-shop.com/shop/fc16-pcb-idc16-male-polarized-fc16-pcb-6002
footprint IDC 8x2 LATCHING (16 pins, straight, short lever, gold plating)
footprint IDC 2X8 (2.00mm Male Box Header, 16p)
pins: 1, 2, 3, 4, 5, 6, 7, 8, 9, 10, 11, 12, 13, 14, 15, 16

## IDC CONNECTOR 13x2
designator CN?, comment CONN HEADER VERT 26POS 2ROW 2.54MM Male  (value not drawn)
CONNECTOR Box Header, THT Straight, pitch 2.54mm, 2 row, 26 pin; ComponentLink1Description: MADE IN CHINA; ComponentLink1URL: https://forman.en.made-in-china.com/product/fTGRjSYbgKhL/China-Fpic-2-54mm-Double-Row-PCB-Pin-Header-Electronics-Parts-2-54mm-Pitch-DIP-Box-Header.html?pv_id=1ig970m81f6b&faw_id=1ig970p1odeb; Supplier 1: Made In China; Supplier Part Number 1: https://forman.en.made-in-china.com/product/fTGRjSYbgKhL/China-Fpic-2-54mm-Double-Row-PCB-Pin-Header-Electronics-Parts-2-54mm-Pitch-DIP-Box-Header.html?pv_id=1ig970m81f6b&faw_id=1ig970p1odeb
footprint IDC Conn 26pin lever (26 pins, straight, short lever, gold plating)
pins: 1, 2, 3, 4, 5, 6, 7, 8, 9, 10, 11, 12, 13, 14, 15, 16, 17, 18, 19, 20, 21, 22, 23, 24, 25, 26

## IDC FEMALE 16POS
designator CNF?, comment FEMALE CONN  (mechanical)
MECH IDC FEMALE 16POS; Supplier 1: RAM; Supplier Part Number 1: https://www.ram-e-shop.com/shop/fc16-cable-idc16-female-fc16-cable-6001; ComponentLink1Description: RAM; ComponentLink1URL: https://www.ram-e-shop.com/shop/fc16-cable-idc16-female-fc16-cable-6001

## IDH20G65C6XKSA1
designator D?, comment Shottky 650V 41A
DIODE Schottky SIL CARB 650V 41A TO220-2; Supplier 1: Digikey; Supplier Part Number 1: 448-IDH20G65C6XKSA1-ND; Supplier 2: LCSC; Supplier Part Number 2: C7435072; Supplier 3: Digikey; Supplier Part Number 3: 1655-S6D20065A-ND; Supplier 4: LCSC; Supplier Part Number 4: C784609
footprint TO-220-2_INF
pins: 1 A, 2 K

## IGBT DRIVER BOARD
designator U?, comment GIGA IGBT DRIVE
IC BOARD IGBT DRIV
footprint IGBT GATE DRIV
pins: 1 G, 2 S
text: IGBT DRIV

## IGBT SNUBBER CAP
designator C?, comment 0.1uF 630V
CAP FILM 0.1uF 630V RADIAL
footprint IGBT SNUBBER CAP
pins: 1 A, 2 B

## IKW20N60TFKSA1
designator Q?, comment IGBT TRENCH FS 600V 40A TO247-3
Trans IGBT TRENCH FS 600V 40A TO247-3; Supplier 1: Digikey; Supplier Part Number 1: IKW20N60TFKSA1-ND; Supplier 2: LCSC; Supplier Part Number 2: C10456
footprint TO-247 (IXYS TO-264 IXFK Vetical)
pins: 1 G, 2 C, 3 E

## IKW40N65H5
designator Q?, comment IGBT 650V 74A TO247-3
IGBT 650 V 74 A 255 W Through Hole PG-TO247-3; Supplier 1: DigiKey; Supplier Part Number 1: IKW40N65H5FKSA1-ND; Supplier 2: LCSC; Supplier Part Number 2: C454249
footprint TO-247 (IXYS TO-264 IXFK Vetical)
pins: 1 G, 2 C, 3 E

## IMW120R350M1HXKSA1
designator U?, comment MOSFET N-CH 1.2KV 4.7A TO247-3
Supplier 1: Digikey; Supplier Part Number 1: IMW120R350M1HXKSA1-ND; Supplier 2: LCSC; Supplier Part Number 2: C2997926; Supplier 3: Digikey; Supplier Part Number 3: 497-18094-ND; Supplier 4: LCSC; Supplier Part Number 4: C472643
footprint TO-247 + Heatsink (IXYS TO-264 IXFK Vetical)
pins: 1 G, 2 D, 3 S

## IND 0402 RF
designator L?
DEFAULT
footprint IND 0402 RF (Chip Inductor, 2-Leads, Body 1.00x0.50mm, IPC High Density)
pins: 1 B, 2 A

## IPW60R037P7XKSA1
designator U?, comment MOSFET N-CH 650V 77A TO247-3-41
Supplier 1: Digikey; Supplier Part Number 1: 448-IPW60R037P7XKSA1-ND; Supplier 2: LCSC; Supplier Part Number 2: C454263; Supplier 3: DigiKey; Supplier Part Number 3: 497-STWA65N65DM2AG-ND; Supplier 4: LCSC; Supplier Part Number 4: C501093
footprint TO-247 (IXYS TO-264 IXFK Vetical)
pins: 1 G, 2 D, 3 S

## IRLR024NTR
designator U?, comment N-CH 55V 17A
MOSFET N-CH 55V 17A DPAK; Supplier 1: Digikey; Supplier Part Number 1: 448-IPD220N06L3GATMA1CT-ND; Supplier 2: LCSC; Supplier Part Number 2: C20624234
footprint DPACK-PMOS
pins: 1 G, 3 S, 4 D

## ISO6721BDR
designator U?, comment DG ISO
IC DG ISO 3KV 2CH CAN/RS232 8-SOIC; Supplier 1: DigiKey; Supplier Part Number 1: 296-ISO6721BDRCT-ND; Supplier 2: LCSC; Supplier Part Number 2: C5216430
footprint SOIC-8 (SOIC - 1.75 mm max height / SMALL OUTLINE INTEGRATED CIRCUIT)
pins: 1 VCC1, 2 OUTA, 3 INB, 4 GND1, 5 GND2, 6 OUTB, 7 INA, 8 VCC2

## ISO Transformer 1:0.47:0.47
designator T?, comment ISO Trans 12v - 5v
Transformer SMD EP7 1:0.47:0.47 12V to 5V
footprint TRANSFORMER EP7 (SMD Inductor, 8-Leads, Body 10.5x10.5mm)
pins: 2, 3, 5, 6, 7, 8
text: N2; N1; N3

## ISO Transformer 1:2:2
designator T?, comment ISO Trans 1:2:2
Transformer SMD EP7 1:2:2
footprint TRANSFORMER EP7 (SMD Inductor, 8-Leads, Body 10.5x10.5mm)
pins: 2, 3, 5, 6, 7, 8
text: N2; N1; N3

## Jumper 2Pad
designator J?  (value not drawn)  (no BOM)
footprint Jumper 2Pad
pins: 1, 2

## Jumper Pad
designator J?  (no BOM)
footprint Jumper Pad
pins: 1 6

## JUMPER SMD
designator J?  (value not drawn)  (no BOM)
footprint JUMPER SMD 3X1.5 mm
pins: 1, 2 G

## JW2SN-DC12V
designator U?, comment RELAY GEN PURPOSE DPDT 5A 12V
Supplier 1: Digikey; Supplier Part Number 1: 255-1117-ND; Supplier 2: LCSC; Supplier Part Number 2: C141974; Supplier 3: Digikey; Supplier Part Number 3: 2449-J104B2C5VDC.20S-ND; Supplier 4: LCSC; Supplier Part Number 4: C163534
footprint RELAY_JW2SN
pins: 1 COIL1, 2 NC1, 3 COM1, 4 NO1, 5 NO2, 6 COM2, 7 NC2, 8 COIL2

## JWMPP85-105K750VDCP27.5F7
designator C?, comment 100nF 750VDC
CAP FILM 1uF ±10% 750V TH; Supplier 1: LCSC; Supplier Part Number 1: C47279073
footprint CAP FILM P = 27.5mm
pins: 1, 2

## KEYSTONE 1287
designator P?, comment CONN QC TAB 0.250 SOLDER  (value not drawn)
TERMINAL 0.250" (6.35mm) Quick Connect Male Solder Connector Non-Insulated; Supplier 1: Digikey; Supplier Part Number 1: 36-1287-ST-ND; Supplier 2: LCSC; Supplier Part Number 2: C591345; ComponentLink1Description: MAKERS; ComponentLink1URL: https://makerselectronics.com/product/terminal-pcb-male-flat-6-3mm/
footprint KEYSTONE_1287
pins: 1, 2

## Keystone 3521
designator FH?, comment FUSE CLIP CARTRIDGE 15A PCB
Supplier 1: Digikey; Supplier Part Number 1: 36-3521-ND; Supplier 2: LCSC; Supplier Part Number 2: C3204270; Supplier 3: Digikey; Supplier Part Number 3: F4189-ND; Supplier 4: LCSC; Supplier Part Number 4: C151075
footprint FUSE_3521
pins: 1, 2

## KEYSTONE 4966
designator P?, comment CONN QC TAB 0.250 SOLDER  (value not drawn)
TERMINAL 0.250" (6.35mm) Quick Connect Male Solder Connector Non-Insulated; Supplier 1: Digikey; Supplier Part Number 1: 36-4966-ND; Supplier 2: LCSC; Supplier Part Number 2: C238120; Supplier 3: Digikey; Supplier Part Number 3: A100799CT-ND; Supplier 4: LCSC; Supplier Part Number 4: C591344
footprint KEYSTONE_4966
pins: 1 2, 1

## KF127-5.0-3P
designator CN?, comment Green Terminal Block
CONN Green Terminal Block 300V/10A 3 Pins 5mm Pitch; Supplier 1: MAKERS; Supplier Part Number 1: https://makerselectronics.com/product/kf127-5-0-3p-green-terminal-block/; ComponentLink1Description: MAKERS; ComponentLink1URL: https://makerselectronics.com/product/kf127-5-0-3p-green-terminal-block/
footprint Screw Terminal P=5mm (Serie 2167 - 5.00 mm _ 3 pins)
pins: 1, 2, 3

## KT-0603R
designator D?, comment LED RED
LED RED CHIP 0604 SMD; Supplier 2: LCSC; Supplier Part Number 2: C2286
footprint LED 0603
pins: 1 A, 2 C

## L78M05ACDT-TR
designator U?, comment IC REG LINEAR 5V 500MA
IC REG LINEAR 5V 500MA DPAK; Supplier 1: Digikey; Supplier Part Number 1: 497-1202-1-ND; Supplier 2: LCSC; Supplier Part Number 2: C173987; Supplier 3: Digikey; Supplier Part Number 3: MC78M05CDTRKGOSCT-ND; Supplier 4: LCSC; Supplier Part Number 4: C20719
footprint DPAK  MC78M05 (D-PAK, 3-Pads, Body 6.21x6.73mm (max), IPC High Density)
pins: 1 IN, 2 GND, 3 OUT

## L78M24ABDT-TR
designator U?, comment REG LINEAR 24V
IC REG LINEAR 24V 500MA DPAK; Supplier 1: Digikey; Supplier Part Number 1: 497-7773-1-ND; Supplier 2: LCSC; Supplier Part Number 2: C82143
footprint DPAK ONSEMI L78XX
pins: 1 INPUT (power), 2 GROUND (power), 3 OUTPUT (power)
text: 7824

## L78M24CDT-TR
designator U?, comment REG LINEAR 24V  (value not drawn)
IC REG LINEAR 24V 1A DPAK; Supplier 1: DigiKey; Supplier Part Number 1: 497-1213-1-ND; Supplier 2: LCSC; Supplier Part Number 2: C68270
footprint DPACK
pins: 1 INPUT (in), 2 OUTPUT (power), 3 GROUND (power)
text: 78M24

## L7805CV
designator U?, comment IC REG LINEAR 5V 1.5A TO220
Supplier 1: Digikey; Supplier Part Number 1: 497-1443-5-ND; Supplier 2: LCSC; Supplier Part Number 2: C111887; Supplier 3: Digikey; Supplier Part Number 3: AS7805AT-E1DI-ND; Supplier 4: LCSC; Supplier Part Number 4: C347289
footprint TO-220-L7805
footprint TO-220-L7805 +Heatsink
pins: 1 INPUT (power), 2 GROUND (power), 3 OUTPUT (power)
text: 7805

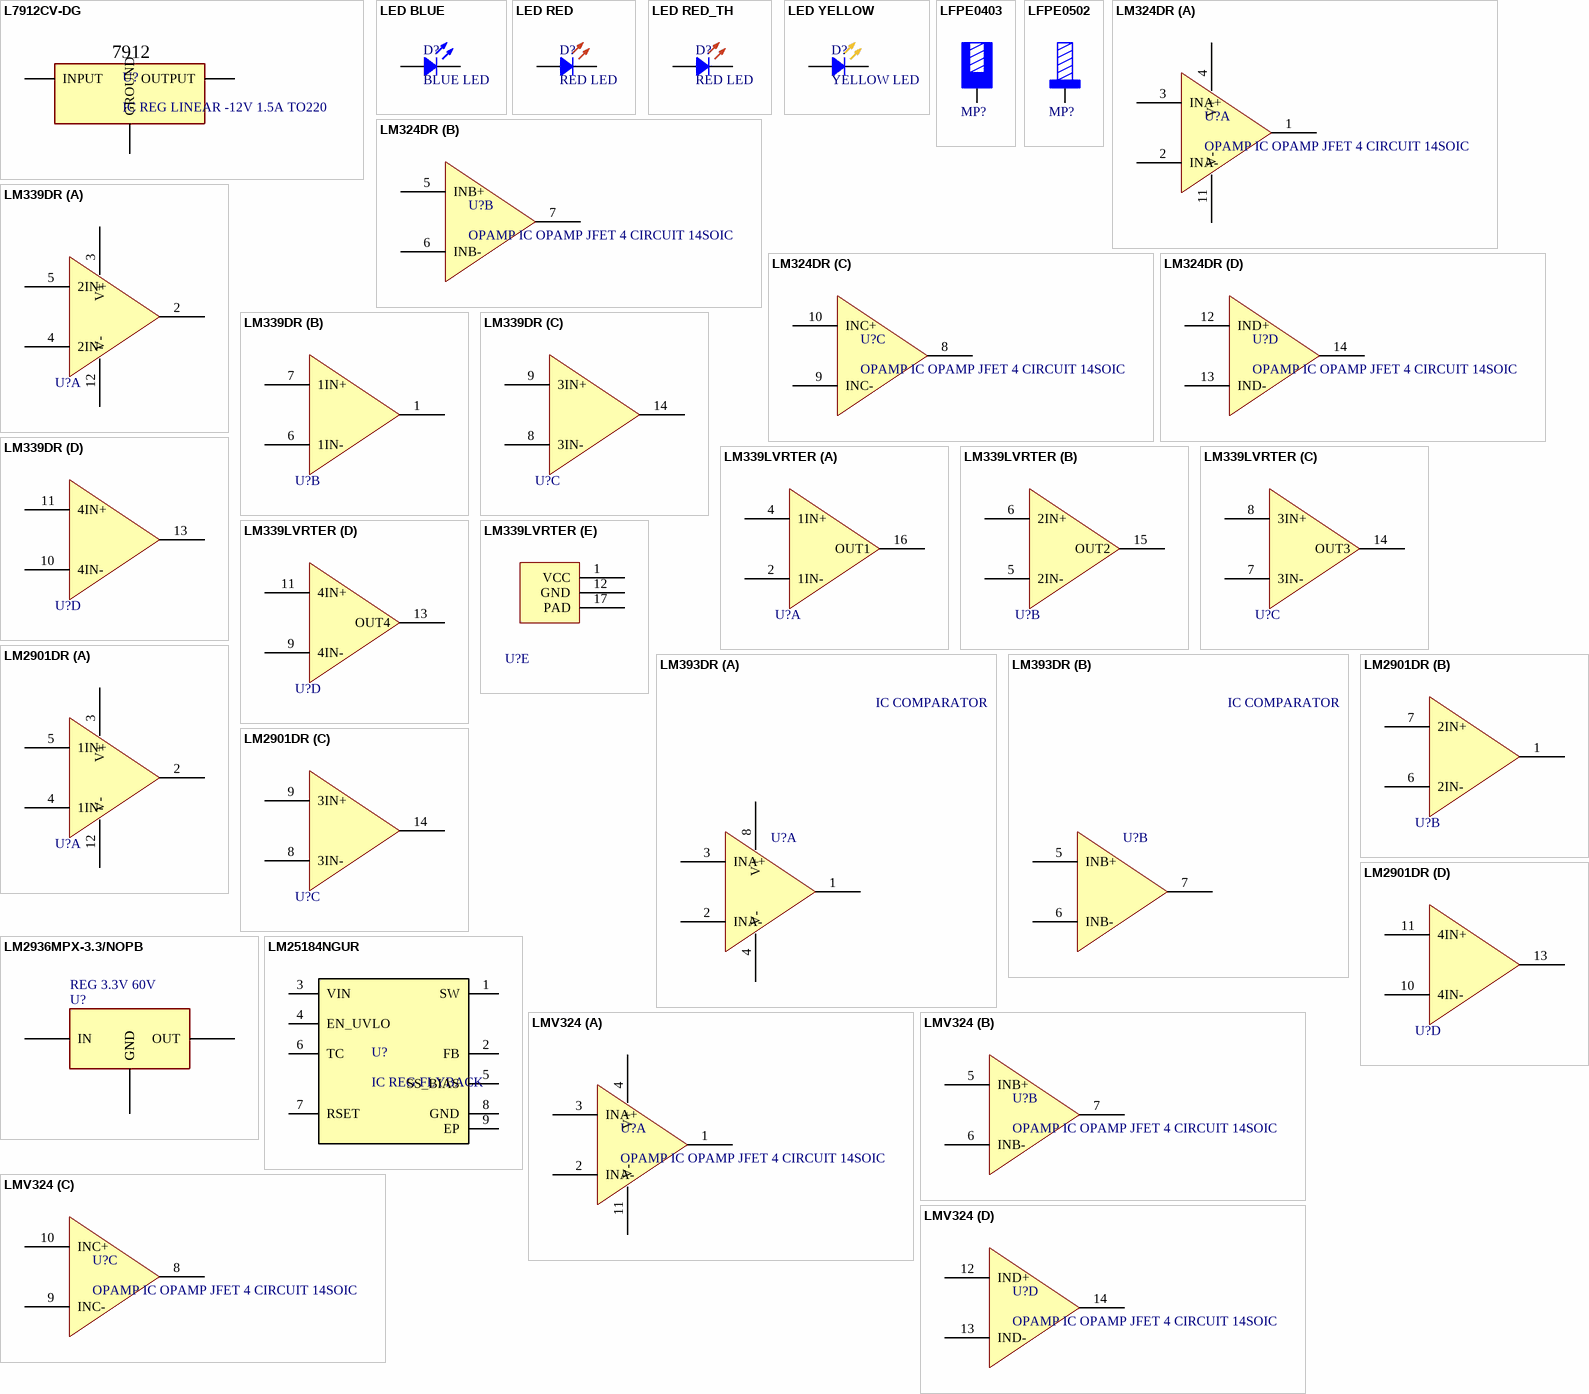
[diagram p15: symbols L7912CV-DG to LMV324]

## L7912CV-DG
designator U?, comment IC REG LINEAR -12V 1.5A TO220
Supplier 1: Digikey; Supplier Part Number 1: 497-L7912CV-DG-ND; Supplier 2: LCSC; Supplier Part Number 2: C3797; Supplier 3: Digikey; Supplier Part Number 3: MC7912BTGOS-ND; Supplier 4: LCSC; Supplier Part Number 4: C109403
footprint TO-220-L7805
footprint TO-220-L7805 +Heatsink
pins: 1 INPUT (power), 2 GROUND (power), 3 OUTPUT (power)
text: 7912

## LED BLUE
designator D?, comment BLUE LED
DIODE LED BLUE SMD 1206; Supplier 1: MAKERS; Supplier Part Number 1: https://makerselectronics.com/product/smd-led-blue-1206; ComponentLink1Description: MAKERS; ComponentLink1URL: https://makerselectronics.com/product/smd-led-blue-1206
footprint LED 1206_3216 BLUE (Chip Diode, 2-Leads, Body 3.13x1.55mm, IPC Medium Density)
pins: 1, 2

## LED RED
designator D?, comment RED LED
DIODE LED RED SMD 1206; Supplier 1: MAKERS; Supplier Part Number 1: https://makerselectronics.com/product/smd-led-red-1206; ComponentLink1Description: MAKERS; ComponentLink1URL: https://makerselectronics.com/product/smd-led-red-1206
footprint LED 1206_3216 RED (Chip Diode, 2-Leads, Body 3.13x1.55mm, IPC Medium Density)
pins: 1, 2

## LED RED_TH
designator D?, comment RED LED
DIODE LED RED TH 2.54
footprint LED_RED_TH_2.54
pins: 1, 2

## LED YELLOW
designator D?, comment YELLOW LED
DIODE LED YELLOW SMD 1206; Supplier 1: MAKERS; Supplier Part Number 1: https://makerselectronics.com/product/smd-led-yellow-1206; ComponentLink1Description: MAKERS; ComponentLink1URL: https://makerselectronics.com/product/smd-led-yellow-1206
footprint LED 1206_3216 YELLOW (Chip Diode, 2-Leads, Body 3.13x1.55mm, IPC Medium Density)
pins: 1, 2

## LFPE0403
designator MP?, comment M4 x 4mm  (value not drawn)
TERMINAL PRESS-FIT with internal thread, full plain, 16PIN, 746195 WU Part Number; Supplier 1: MADE IN CHINA; Supplier Part Number 1: https://szinsail.en.made-in-china.com/product/cKhJeEsUHHrk/China-Power-Element-Dichtend-M8-for-DC-Motor-7461097-7461099-7461061-7461095.html?pv_id=1iqddr29d05d&faw_id=1iqde1dp294f
footprint 7461095_chemical surface (M4, blind 4mm)
pins: 1

## LFPE0502
designator MP?, comment M4 x 6mm  (value not drawn)
TERMINAL PRESS-FIT with external thread, 7461096 , M4 x 6mm, 130A; Supplier 1: Made In China; Supplier Part Number 1: https://szinsail.en.made-in-china.com/product/KBhxqHjOkIpk/China-Press-Fit-Connector-25pin-M8-Shank-250A-7461098-Lfpe0506-7461094-7461096-7461001.html?pv_id=1iqdioif763&faw_id=1iqdiojsgb69
footprint 7461096_chemical surface
pins: 1

## LM324DR
designator U?, comment OPAMP IC OPAMP JFET 4 CIRCUIT 14SOIC
IC OPAMP J-FET Amplifier 4 Circuit 14-SOIC; ComponentLink1Description: DIGIKEY; ComponentLink1URL: https://www.digikey.com/en/products/detail/texas-instruments/LM324DR/555719; ComponentLink2Description: LCSC; ComponentLink2URL: https://www.lcsc.com/product-detail/Operational-Amplifier_Texas-Instruments-LM324DR_C7943.html; Supplier 1: Digikey; Supplier Part Number 1: 296-14597-1-ND; Supplier 2: LCSC; Supplier Part Number 2: C7943; Supplier 3: DigiKey; Supplier Part Number 3: LM324DR2GOSCT-ND; Supplier 4: LCSC; Supplier Part Number 4: C63820
footprint SOIC-14 (SOIC, 14-Leads, Body 8.65x3.90mm, Pitch 1.27mm, IPC Low Density)
part A pins: 1 OUT, 2 INA-, 3 INA+, 4 V+ (power), 11 V- (power)
part B pins: 5 INB+, 6 INB-, 7 OUTB
part C pins: 8 OUTC, 9 INC-, 10 INC+
part D pins: 12 IND+, 13 IND-, 14 OUTD

## LM339DR
designator U?, comment Comparator Gen. Purp. Open-Collector  (value not drawn)
IC Comparator General Purpose Open-Collector 14-SOIC; Supplier 1: Digikey; Supplier Part Number 1: 296-1013-1-ND; Supplier 2: LCSC; Supplier Part Number 2: C7948; Supplier 3: Digikey; Supplier Part Number 3: LM339DR2GOSCT-ND; Supplier 4: LCSC; Supplier Part Number 4: C63821
footprint SOIC-14 (SOIC, 14-Leads, Body 8.65x3.90mm, Pitch 1.27mm, IPC Low Density)
part A pins: 2 1OUT, 3 V+ (power), 4 2IN-, 5 2IN+, 12 V- (power)
part B pins: 1 2OUT, 6 1IN-, 7 1IN+
part C pins: 8 3IN-, 9 3IN+, 14 3OUT
part D pins: 10 4IN-, 11 4IN+, 13 4OUT

## LM339LVRTER
designator U?, comment COMP WQFN16  (value not drawn)
IC Comparator Standard (General Purpose) Open-Collector 16-WQFN (3x3); Supplier 1: DigiKey; Supplier Part Number 1: 296-LM339LVRTERCT-ND; Supplier 2: LCSC; Supplier Part Number 2: C3658606
footprint WQFN-16 TI
part A pins: 2 1IN-, 4 1IN+, 16 OUT1
part B pins: 5 2IN-, 6 2IN+, 15 OUT2
part C pins: 7 3IN-, 8 3IN+, 14 OUT3
part D pins: 9 4IN-, 11 4IN+, 13 OUT4
part E pins: 1 VCC, 12 GND, 17 PAD

## LM393DR
designator U?, comment IC COMPARATOR
IC COMPARATOR 2 DIFF 8SOIC; Supplier 1: DigiKey; Supplier Part Number 1: 296-1015-1-ND; Supplier 2: LCSC; Supplier Part Number 2: C67470
footprint SOIC-8 (SOIC - 1.75 mm max height / SMALL OUTLINE INTEGRATED CIRCUIT)
part A pins: 1 OUT, 2 INA-, 3 INA+, 4 V- (power), 8 V+ (power)
part B pins: 5 INB+, 6 INB-, 7 OUTB

## LM2901DR
designator U?, comment Comparator Gen. Purp. Open-Collector  (value not drawn)
IC COMPARATOR 4 GEN PUR 14SOIC; Supplier 1: Digikey; Supplier Part Number 1: 296-14593-1-ND; Supplier 2: LCSC; Supplier Part Number 2: C7932; Supplier 3: Digikey; Supplier Part Number 3: LM2901DR2GOSCT-ND; Supplier 4: LCSC; Supplier Part Number 4: C63822
footprint SOIC-14 (SOIC, 14-Leads, Body 8.65x3.90mm, Pitch 1.27mm, IPC Low Density)
part A pins: 2 1OUT, 3 V+ (power), 4 1IN-, 5 1IN+, 12 V- (power)
part B pins: 1 2OUT, 6 2IN-, 7 2IN+
part C pins: 8 3IN-, 9 3IN+, 14 3OUT
part D pins: 10 4IN-, 11 4IN+, 13 4OUT

## LM2936MPX-3.3/NOPB
designator U?, comment REG 3.3V 60V
IC REG LIN 3.3V 50MA 60V SOT-223-4; Supplier 1: DigiKey; Supplier Part Number 1: 296-35272-1-ND; Supplier 2: LCSC; Supplier Part Number 2: C2872050
footprint SOT-223-TI
pins: 1 IN, 2 GND, 3 OUT, 4 GND

## LM25184NGUR
designator U?, comment IC REG FLYBACK
IC Flyback Switching Regulator IC Positive Fixed 12V 1 Output 4.1A 8-WDFN Exposed Pad; Supplier 1: WORLDWAY; Supplier Part Number 1: LM25184NGUR; Supplier 2: LCSC; Supplier Part Number 2: C1513006
footprint WSON-8 (SON, 8-Leads, Body 4.00x4.00mm, Pitch 0.80mm, Thermal Pad 3.00x1.98mm, IPC Medium Density)
pins: 1 SW, 2 FB, 3 VIN, 4 EN_UVLO, 5 SS_BIAS, 6 TC, 7 RSET, 8 GND, 9 EP

## LMV324
designator U?, comment OPAMP IC OPAMP JFET 4 CIRCUIT 14SOIC
IC OPAMP J-FET Amplifier 4 Circuit Rail-to-Rail 14-SOIC; Supplier 1: Digikey; Supplier Part Number 1: 296-9569-1-ND; Supplier 2: LCSC; Supplier Part Number 2: C7974
footprint SOIC-14 (SOIC, 14-Leads, Body 8.65x3.90mm, Pitch 1.27mm, IPC Low Density)
part A pins: 1 OUT, 2 INA-, 3 INA+, 4 V+ (power), 11 V- (power)
part B pins: 5 INB+, 6 INB-, 7 OUTB
part C pins: 8 OUTC, 9 INC-, 10 INC+
part D pins: 12 IND+, 13 IND-, 14 OUTD

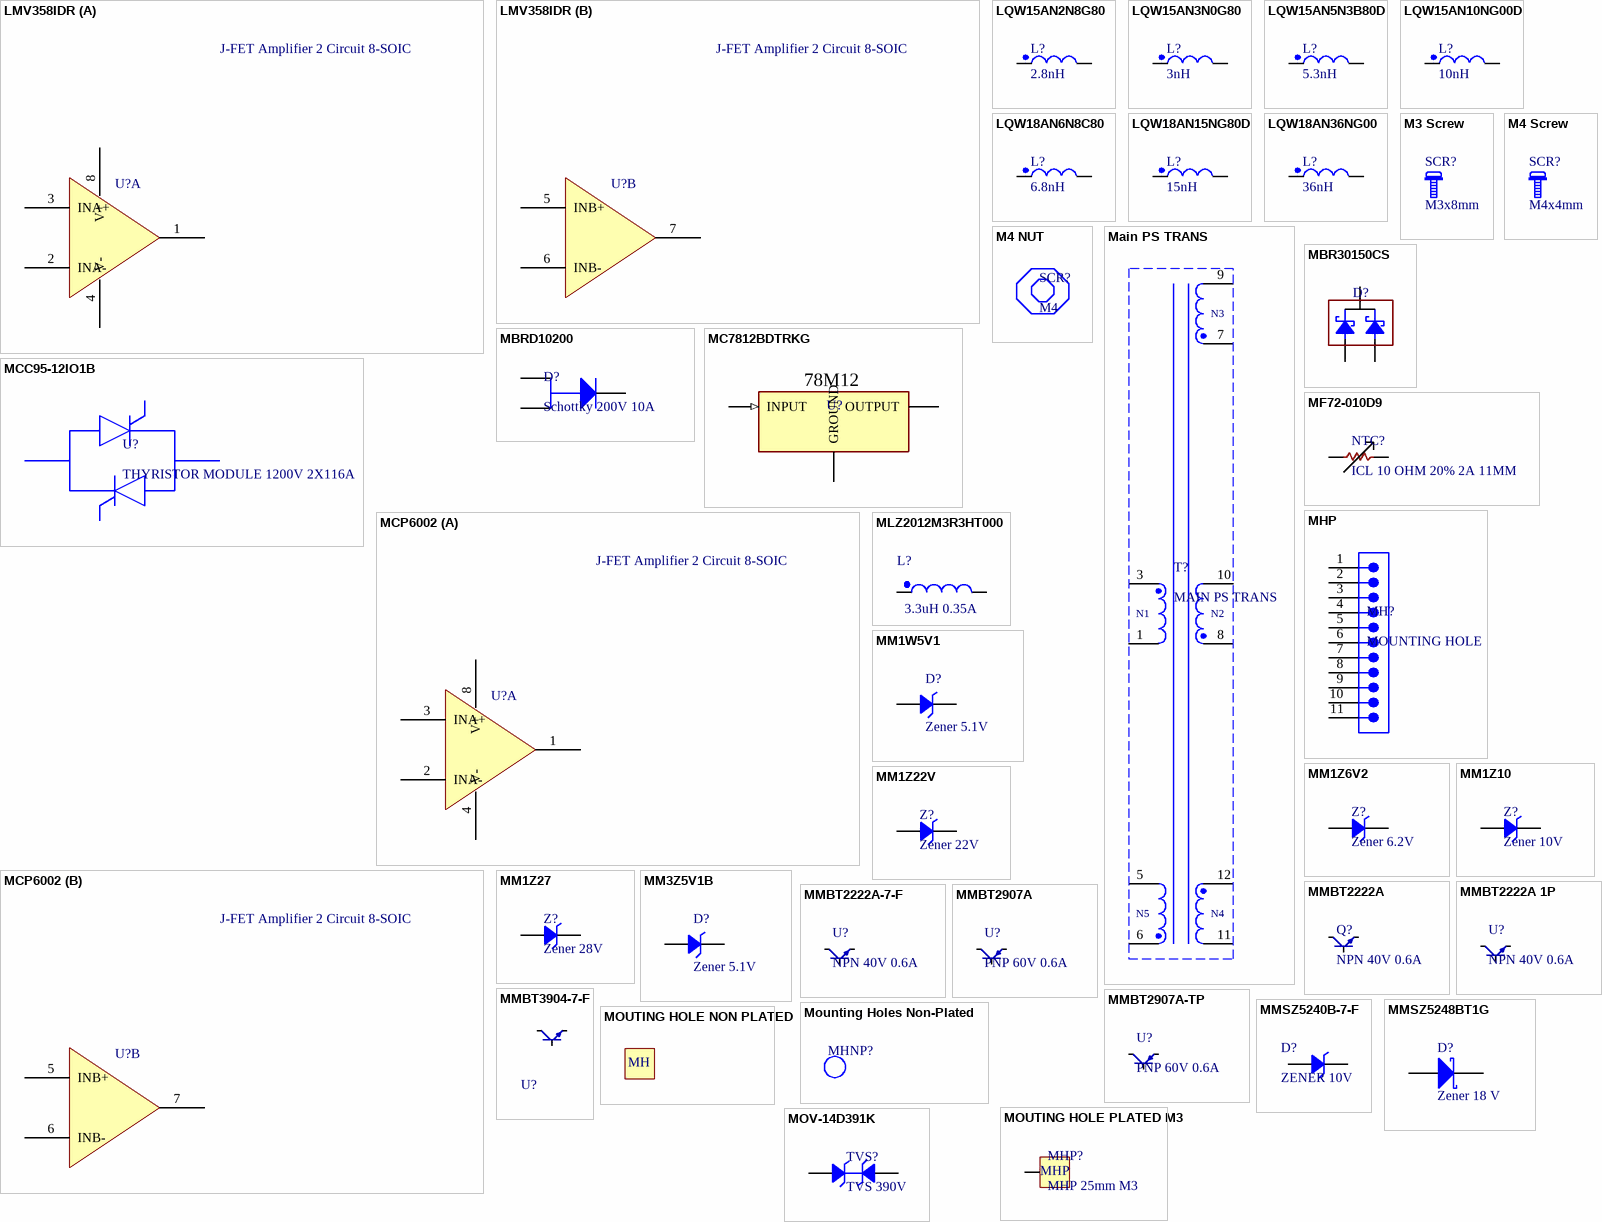
[diagram p16: symbols LMV358IDR to MOV-14D391K]

## LMV358IDR
designator U?, comment J-FET Amplifier 2 Circuit 8-SOIC
IC OPAMP JFET RAIL TO RAL 5V 2 CIRCUIT 8SOIC; Supplier 2: LCSC; Supplier Part Number 2: C63813
footprint SOIC-8 (SOIC - 1.75 mm max height / SMALL OUTLINE INTEGRATED CIRCUIT)
part A pins: 1 OUT, 2 INA-, 3 INA+, 4 V- (power), 8 V+ (power)
part B pins: 5 INB+, 6 INB-, 7 OUTB

## LQW15AN2N8G80
designator L?, comment 2.8nH
RF FIXED IND 2.8NH 1.5A 0.047OHM SMD; Supplier 1: DigiKey; Supplier Part Number 1: 490-LQW15AN2N8G80DCT-ND; Supplier 2: LCSC; Supplier Part Number 2: C412270
footprint IND 0402 RF (Chip Inductor, 2-Leads, Body 1.00x0.50mm, IPC High Density)
pins: 1 B, 2 A

## LQW15AN3N0G80
designator L?, comment 3nH
RF FIXED IND 3NH 1.35A 0.063OHM SMD; Supplier 1: DigiKey; Supplier Part Number 1: 490-LQW15AN3N0G80DCT-ND; Supplier 2: LCSC; Supplier Part Number 2: C412272
footprint IND 0402 RF (Chip Inductor, 2-Leads, Body 1.00x0.50mm, IPC High Density)
pins: 1 B, 2 A

## LQW15AN5N3B80D
designator L?, comment 5.3nH
RF FIXED IND 5.3NH 1.77A 0.04OHM SMD; Supplier 1: DigiKey; Supplier Part Number 1: 490-7657-1-ND; Supplier 2: LCSC; Supplier Part Number 2: C2044560
footprint IND 0402 RF (Chip Inductor, 2-Leads, Body 1.00x0.50mm, IPC High Density)
pins: 1 B, 2 A

## LQW15AN10NG00D
designator L?, comment 10nH
RF FIXED IND 10NH 500MA 0.17OHM SMD; Supplier 1: DigiKey; Supplier Part Number 1: 490-6762-1-ND; Supplier 2: LCSC; Supplier Part Number 2: C90642
footprint IND 0402 RF (Chip Inductor, 2-Leads, Body 1.00x0.50mm, IPC High Density)
pins: 1 B, 2 A

## LQW18AN6N8C80
designator L?, comment 6.8nH
RF FIXED IND 6.8NH 1.35A 0.063OHM SMD; Supplier 1: DigiKey; Supplier Part Number 1: 490-LQW18AN6N8C80DCT-ND; Supplier 2: LCSC; Supplier Part Number 2: C2050361
footprint IND 0603 RF (Chip Inductor, 2-Leads, Body 1.65x0.99mm, IPC Medium Density)
pins: 1 B, 2 A

## LQW18AN15NG80D
designator L?, comment 15nH
RF FIXED IND 15NH 1.4A 0.075OHM SMD; Supplier 1: DigiKey; Supplier Part Number 1: 490-18132-1-ND; Supplier 2: LCSC; Supplier Part Number 2: C668468
footprint IND 0603 RF (Chip Inductor, 2-Leads, Body 1.65x0.99mm, IPC Medium Density)
pins: 1 B, 2 A

## LQW18AN36NG00
designator L?, comment 36nH
RF FIXED IND 36NH 400MA 0.26OHM SMD; Supplier 1: DigiKey; Supplier Part Number 1: 490-6886-1-ND; Supplier 2: LCSC; Supplier Part Number 2: C113124
footprint IND 0603 RF (Chip Inductor, 2-Leads, Body 1.65x0.99mm, IPC Medium Density)
pins: 1 B, 2 A